# EAGLE library part 74HC240 (library Arsenio)
74HC240 Ocatal buffer/Line driver, 3 State inverting
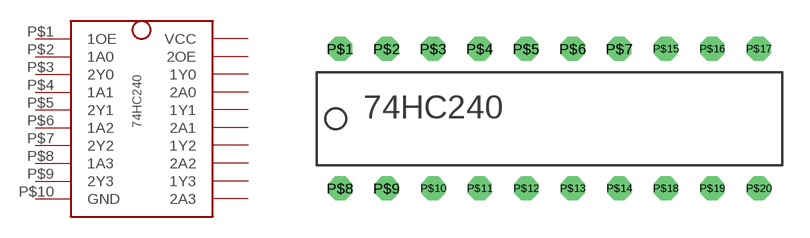
[diagram p1: symbol with the pads of DIP10; footprint DIP10]

Designator prefix -

## 74HC240  [DIP10]
P$1  1OE
P$2  1A0
P$3  2Y0
P$4  1A1
P$5  2Y1
P$6  1A2
P$7  2Y2
P$8  1A3
P$9  2Y3
P$10  GND
P$11  2A3
P$12  1Y3
P$13  2A2
P$14  1Y2
P$15  2A1
P$16  1Y1
P$17  2A0
P$18  1Y0
P$19  2OE
P$20  VCC

## Footprint DIP10 (pad centres in mm)
drill 0.8 octagon: P$1 -8.89,5.08; P$2 -6.35,5.08; P$3 -3.81,5.08; P$4 -1.27,5.08; P$5 1.27,5.08; P$6 3.81,5.08; P$7 6.35,5.08; P$8 -8.89,-2.54; P$9 -6.35,-2.54; P$10 -3.81,-2.54; P$11 -1.27,-2.54; P$12 1.27,-2.54; P$13 3.81,-2.54; P$14 6.35,-2.54; P$15 8.89,5.08; P$16 11.43,5.08; P$17 13.97,5.08; P$18 8.89,-2.54; P$19 11.43,-2.54; P$20 13.97,-2.54